# Altium schematic symbol library ATSAM.SchLib: 1 symbol
Pins are listed as number, name and electrical type; pins without a type are passive.

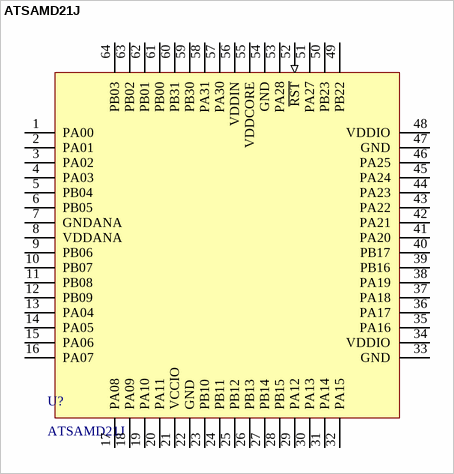
[diagram p0: symbol ATSAMD21J]

## ATSAMD21J
designator U?
footprint TQFP64
pins: 1 PA00, 2 PA01, 3 PA02, 4 PA03, 5 PB04, 6 PB05, 7 GNDANA (power), 8 VDDANA (power), 9 PB06, 10 PB07, 11 PB08, 12 PB09, 13 PA04, 14 PA05, 15 PA06, 16 PA07, 17 PA08, 18 PA09, 19 PA10, 20 PA11, 21 VCCIO (power), 22 GND (power), 23 PB10, 24 PB11, 25 PB12, 26 PB13, 27 PB14, 28 PB15, 29 PA12, 30 PA13, 31 PA14, 32 PA15, 33 GND (power), 34 VDDIO (power), 35 PA16, 36 PA17, 37 PA18, 38 PA19, 39 PB16, 40 PB17, 41 PA20, 42 PA21, 43 PA22, 44 PA23, 45 PA24, 46 PA25, 47 GND (power), 48 VDDIO (power), 49 PB22, 50 PB23, 51 PA27, 52 ~{RST} (in), 53 PA28, 54 GND (power), 55 VDDCORE (power), 56 VDDIN (power), 57 PA30, 58 PA31, 59 PB30, 60 PB31, 61 PB00, 62 PB01, 63 PB02, 64 PB03